# EAGLE library part MAX3086 (library MAX308x)
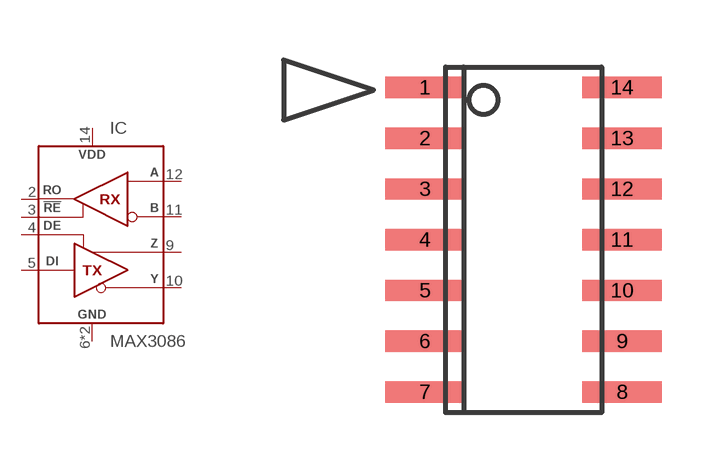
[diagram p0: symbol with the pads of SO14-N; footprint SO14-N]

Designator prefix IC

## MAX3086CSD, MAX3086ESD  [SO14-N]
2  RO  out
3  !RE  in
4  DE  in
5  DI  in
6  GND  in
7  GND  in
9  TX_P  out
10  TX_N  out
11  RX_N  in
12  RX_P  in
14  VDD  in

## Footprint SO14-N (pad centres in mm)
smd 1.981 x 0.533: 1 -2.464,3.81; 2 -2.464,2.54; 3 -2.464,1.27; 4 -2.464,0; 5 -2.464,-1.27; 6 -2.464,-2.54; 7 -2.464,-3.81; 8 2.464,-3.81; 9 2.464,-2.54; 10 2.464,-1.27; 11 2.464,0; 12 2.464,1.27; 13 2.464,2.54; 14 2.464,3.81